# Altium footprint library ResVertical.PcbLib: 1 footprints
Each footprint in its own frame and in the unit in brackets; x right, y up, seen from the top. Pads: shape width x height; smd on the part's side, far side on the other; paste and mask are expansions set on the pad; w line width, h text height; cw(c..) or ccw(c..) is an arc to the next point about the centre after c.
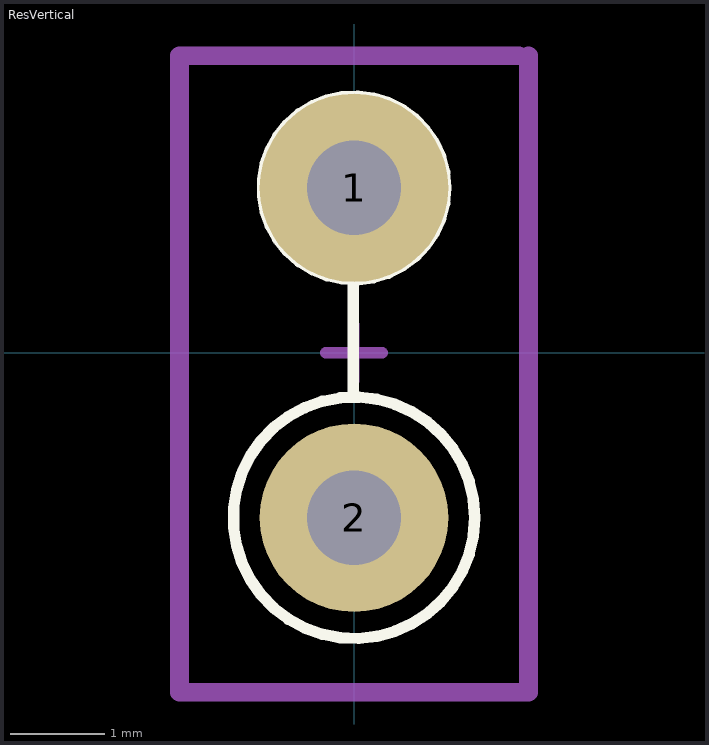
[diagram p0: the footprint, top view; thin cyan lines are the x and y axes]

## ResVertical [mm]
pads (2):
  round 2 hole 1: 1(0,1.75) 2(0,-1.75)
Top Overlay:
  circle w0.12: c0,1.75 r0.975
  circle w0.12: c0,-1.75 r1.281
  lines w0.12: -0.008,-0.45 -0.008,0.75
Mechanical 15:
  lines w0.12: -0.3,0 0.3,0 ; 0,-0.3 0,0.3
  lines w0.2: 1.85,3.15 1.85,-3.6 -1.85,-3.6 -1.85,3.15 1.75,3.15 ; 1.75,3.15 1.75,3.15